# Altium footprint library LED3528.PcbLib: 1 footprints
Each footprint in its own frame and in the unit in brackets; x right, y up, seen from the top. Pads: shape width x height; smd on the part's side, far side on the other; paste and mask are expansions set on the pad; w line width, h text height; cw(c..) or ccw(c..) is an arc to the next point about the centre after c.
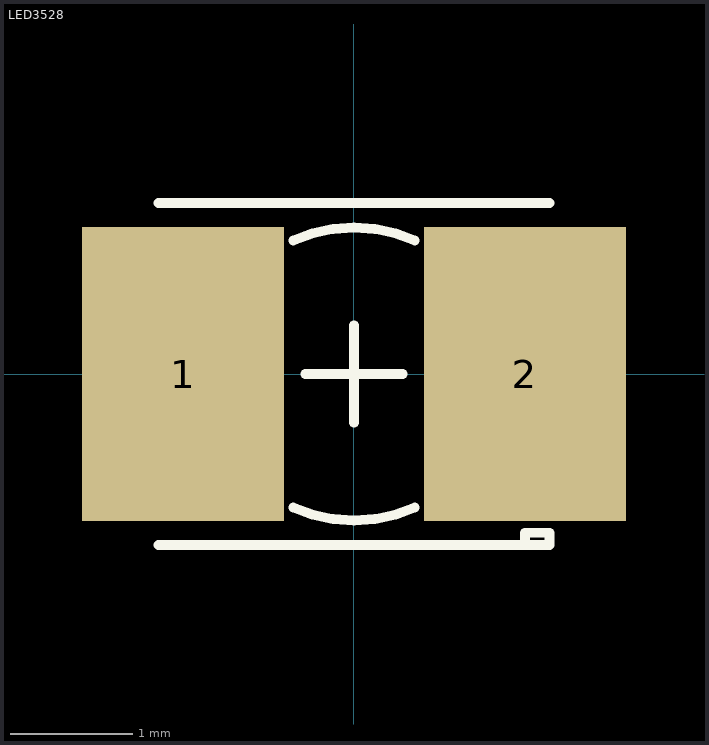
[diagram p0: the footprint, top view; thin cyan lines are the x and y axes]

## LED3528 [mm]
height 3.175
pads (2):
  rect 1.65x2.41 smd: 1(-1.4,0) 2(1.4,0)
Top Overlay:
  lines w0.08: -1.6,-1.4 1.6,-1.4 ; -1.6,1.4 1.6,1.4 ; -0.497,-1.092 ccw(c0,0) 0.497,-1.092 ; -0.497,1.092 cw(c0,0) 0.497,1.092 ; -0.4,0 0.4,0 ; 0,-0.4 0,0.4 ; 1.4,-1.4 1.4,-1.3 1.6,-1.3 ; 1.6,-1.4 1.6,-1.3 ; 1.6,-1.4 1.6,-1.3